# Altium schematic symbol library Pin Header.SchLib: 4 symbols
Pins are listed as number, name and electrical type; pins without a type are passive.

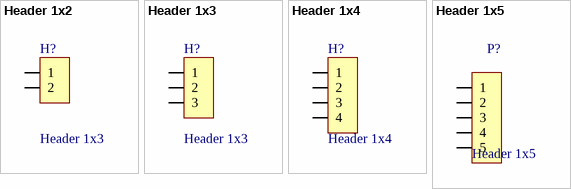
[diagram p0: symbols Header 1x2 to Header 1x5]

## Header 1x2
designator H?, comment Header 1x3
footprint Header 1x2 male CNC
pins: 1, 2

## Header 1x3
designator H?
footprint Header 1x3 male
pins: 1, 2, 3

## Header 1x4
designator H?
footprint Header 1x4 male
pins: 1, 2, 3, 4

## Header 1x5
designator P?
footprint Header 1x5 male
pins: 1, 2, 3, 4, 5